# EAGLE library part 2013289-1 (library SamacSys_Parts)
Double Data Rate (DDR) 3, 5.2 mm [.205 in] Stack Height, Right Angle Module Orientation, 204 Position, .6 mm [.024 in] Centerline, SO DIMM Sockets Source: Datasheet <https://www.te.com/commerce/DocumentDelivery/DDEController?Action=srchrtrv&DocNm=2013289&DocType=Customer Drawing&DocLang=English&DocFormat=pdf&PartCntxt=2013289-1>
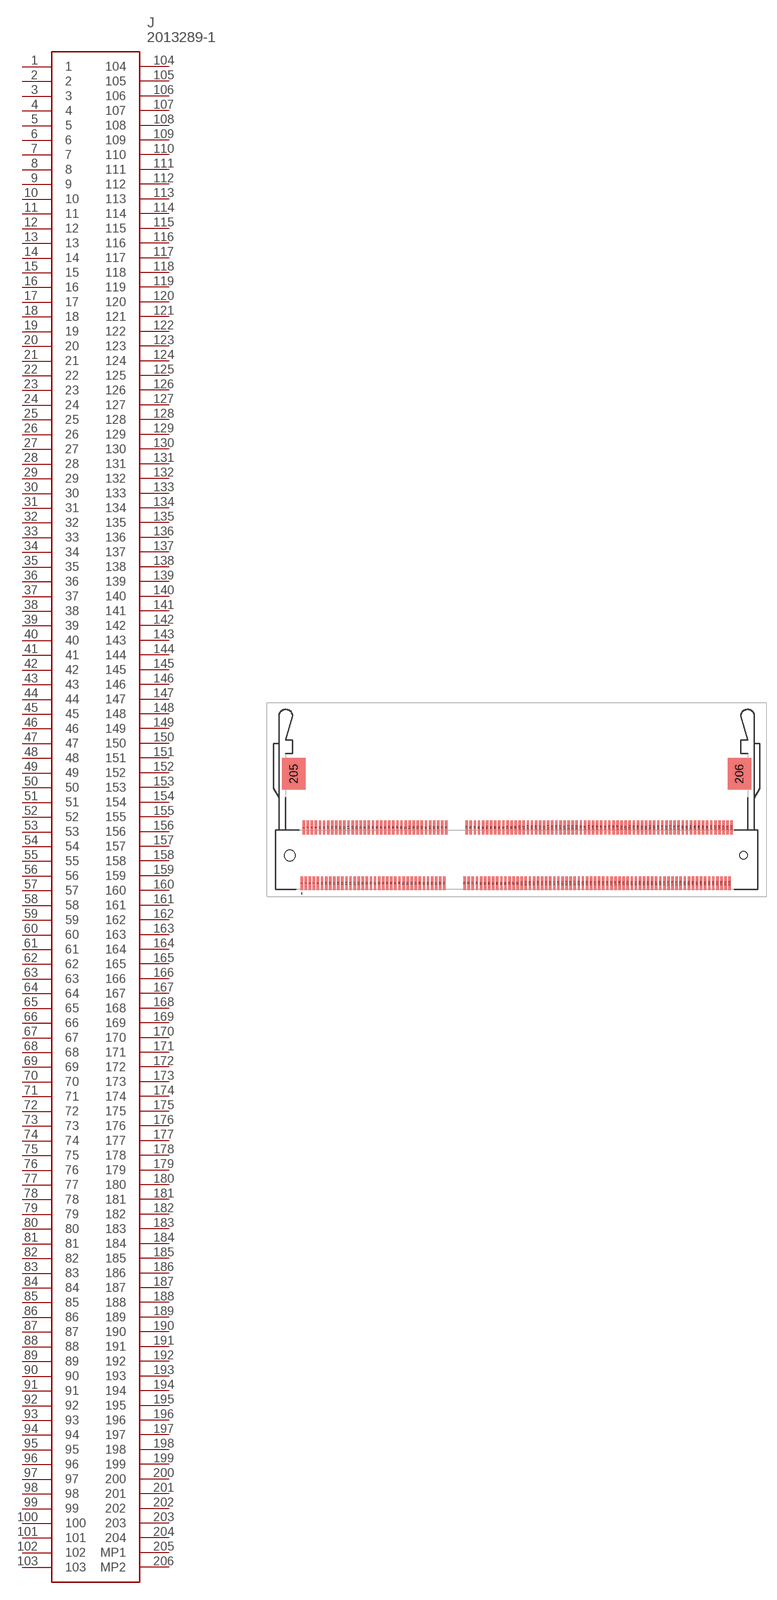
[diagram p38: symbol with the pads of 20132891; footprint 20132891]

Designator prefix J

## 2013289-1 (DESCRIPTION: Double Data Rate (DDR) 3, 5.2 mm [.205 in] Stack Height, Right Angle Module Orientation, 204 Position, .6 mm [.024 in] Centerline, SO DIMM Sockets; HEIGHT: 6.25mm; MANUFACTURER_NAME: TE Connectivity; MANUFACTURER_PART_NUMBER: 2013289-1; MOUSER_PART_NUMBER: 571-2013289-1; MOUSER_PRICE-STOCK: https://www.mouser.co.uk/ProductDetail/TE-Connectivity/2013289-1?qs=7Sb4WzetO8%252BsW7IoJbo%2FKQ%3D%3D)  [20132891]
1  1
2  2
3  3
4  4
5  5
6  6
7  7
8  8
9  9
10  10
11  11
12  12
13  13
14  14
15  15
16  16
17  17
18  18
19  19
20  20
21  21
22  22
23  23
24  24
25  25
26  26
27  27
28  28
29  29
30  30
31  31
32  32
33  33
34  34
35  35
36  36
37  37
38  38
39  39
40  40
41  41
42  42
43  43
44  44
45  45
46  46
47  47
48  48
49  49
50  50
51  51
52  52
53  53
54  54
55  55
56  56
57  57
58  58
59  59
60  60
61  61
62  62
63  63
64  64
65  65
66  66
67  67
68  68
69  69
70  70
71  71
72  72
73  73
74  74
75  75
76  76
77  77
78  78
79  79
80  80
81  81
82  82
83  83
84  84
85  85
86  86
87  87
88  88
89  89
90  90
91  91
92  92
93  93
94  94
95  95
96  96
97  97
98  98
99  99
100  100
101  101
102  102
103  103
104  104
105  105
106  106
107  107
108  108
109  109
110  110
111  111
112  112
113  113
114  114
115  115
116  116
117  117
118  118
119  119
120  120
121  121
122  122
123  123
124  124
125  125
126  126
127  127
128  128
129  129
130  130
131  131
132  132
133  133
134  134
135  135
136  136
137  137
138  138
139  139
140  140
141  141
142  142
143  143
144  144
145  145
146  146
147  147
148  148
149  149
150  150
151  151
152  152
153  153
154  154
155  155
156  156
157  157
158  158
159  159
160  160
161  161
162  162
163  163
164  164
165  165
166  166
167  167
168  168
169  169
170  170
171  171
172  172
173  173
174  174
175  175
176  176
177  177
178  178
179  179
180  180
181  181
182  182
183  183
184  184
185  185
186  186
187  187
188  188
189  189
190  190
191  191
192  192
193  193
194  194
195  195
196  196
197  197
198  198
199  199
200  200
201  201
202  202
203  203
204  204
205  MP1
206  MP2

## Footprint 20132891 (pad centres in mm)
2013289-1-1
smd 0.35 x 2: 1 -31.65,-12.35; 2 -31.35,-4.15; 3 -31.05,-12.35; 4 -30.75,-4.15; 5 -30.45,-12.35; 6 -30.15,-4.15; 7 -29.85,-12.35; 8 -29.55,-4.15; 9 -29.25,-12.35; 10 -28.95,-4.15; 11 -28.65,-12.35; 12 -28.35,-4.15; 13 -28.05,-12.35; 14 -27.75,-4.15; 15 -27.45,-12.35; 16 -27.15,-4.15; 17 -26.85,-12.35; 18 -26.55,-4.15; 19 -26.25,-12.35; 20 -25.95,-4.15; 21 -25.65,-12.35; 22 -25.35,-4.15; 23 -25.05,-12.35; 24 -24.75,-4.15; 25 -24.45,-12.35; 26 -24.15,-4.15; 27 -23.85,-12.35; 28 -23.55,-4.15; 29 -23.25,-12.35; 30 -22.95,-4.15; 31 -22.65,-12.35; 32 -22.35,-4.15; 33 -22.05,-12.35; 34 -21.75,-4.15; 35 -21.45,-12.35; 36 -21.15,-4.15; 37 -20.85,-12.35; 38 -20.55,-4.15; 39 -20.25,-12.35; 40 -19.95,-4.15; 41 -19.65,-12.35; 42 -19.35,-4.15; 43 -19.05,-12.35; 44 -18.75,-4.15; 45 -18.45,-12.35; 46 -18.15,-4.15; 47 -17.85,-12.35; 48 -17.55,-4.15; 49 -17.25,-12.35; 50 -16.95,-4.15; 51 -16.65,-12.35; 52 -16.35,-4.15; 53 -16.05,-12.35; 54 -15.75,-4.15; 55 -15.45,-12.35; 56 -15.15,-4.15; 57 -14.85,-12.35; 58 -14.55,-4.15; 59 -14.25,-12.35; 60 -13.95,-4.15; 61 -13.65,-12.35; 62 -13.35,-4.15; 63 -13.05,-12.35; 64 -12.75,-4.15; 65 -12.45,-12.35; 66 -12.15,-4.15; 67 -11.85,-12.35; 68 -11.55,-4.15; 69 -11.25,-12.35; 70 -10.95,-4.15; 71 -10.65,-12.35; 72 -10.35,-4.15; 73 -7.65,-12.35; 74 -7.35,-4.15; 75 -7.05,-12.35; 76 -6.75,-4.15; 77 -6.45,-12.35; 78 -6.15,-4.15; 79 -5.85,-12.35; 80 -5.55,-4.15; 81 -5.25,-12.35; 82 -4.95,-4.15; 83 -4.65,-12.35; 84 -4.35,-4.15; 85 -4.05,-12.35; 86 -3.75,-4.15; 87 -3.45,-12.35; 88 -3.15,-4.15; 89 -2.85,-12.35; 90 -2.55,-4.15; 91 -2.25,-12.35; 92 -1.95,-4.15; 93 -1.65,-12.35; 94 -1.35,-4.15; 95 -1.05,-12.35; 96 -0.75,-4.15; 97 -0.45,-12.35; 98 -0.15,-4.15; 99 0.15,-12.35; 100 0.45,-4.15; 101 0.75,-12.35; 102 1.05,-4.15; 103 1.35,-12.35; 104 1.65,-4.15; 105 1.95,-12.35; 106 2.25,-4.15; 107 2.55,-12.35; 108 2.85,-4.15; 109 3.15,-12.35; 110 3.45,-4.15; 111 3.75,-12.35; 112 4.05,-4.15; 113 4.35,-12.35; 114 4.65,-4.15; 115 4.95,-12.35; 116 5.25,-4.15; 117 5.55,-12.35; 118 5.85,-4.15; 119 6.15,-12.35; 120 6.45,-4.15; 121 6.75,-12.35; 122 7.05,-4.15; 123 7.35,-12.35; 124 7.65,-4.15; 125 7.95,-12.35; 126 8.25,-4.15; 127 8.55,-12.35; 128 8.85,-4.15; 129 9.15,-12.35; 130 9.45,-4.15; 131 9.75,-12.35; 132 10.05,-4.15; 133 10.35,-12.35; 134 10.65,-4.15; 135 10.95,-12.35; 136 11.25,-4.15; 137 11.55,-12.35; 138 11.85,-4.15; 139 12.15,-12.35; 140 12.45,-4.15; 141 12.75,-12.35; 142 13.05,-4.15; 143 13.35,-12.35; 144 13.65,-4.15; 145 13.95,-12.35; 146 14.25,-4.15; 147 14.55,-12.35; 148 14.85,-4.15; 149 15.15,-12.35; 150 15.45,-4.15; 151 15.75,-12.35; 152 16.05,-4.15; 153 16.35,-12.35; 154 16.65,-4.15; 155 16.95,-12.35; 156 17.25,-4.15; 157 17.55,-12.35; 158 17.85,-4.15; 159 18.15,-12.35; 160 18.45,-4.15; 161 18.75,-12.35; 162 19.05,-4.15; 163 19.35,-12.35; 164 19.65,-4.15; 165 19.95,-12.35; 166 20.25,-4.15; 167 20.55,-12.35; 168 20.85,-4.15; 169 21.15,-12.35; 170 21.45,-4.15; 171 21.75,-12.35; 172 22.05,-4.15; 173 22.35,-12.35; 174 22.65,-4.15; 175 22.95,-12.35; 176 23.25,-4.15; 177 23.55,-12.35; 178 23.85,-4.15; 179 24.15,-12.35; 180 24.45,-4.15; 181 24.75,-12.35; 182 25.05,-4.15; 183 25.35,-12.35; 184 25.65,-4.15; 185 25.95,-12.35; 186 26.25,-4.15; 187 26.55,-12.35; 188 26.85,-4.15; 189 27.15,-12.35; 190 27.45,-4.15; 191 27.75,-12.35; 192 28.05,-4.15; 193 28.35,-12.35; 194 28.65,-4.15; 195 28.95,-12.35; 196 29.25,-4.15; 197 29.55,-12.35; 198 29.85,-4.15; 199 30.15,-12.35; 200 30.45,-4.15; 201 30.75,-12.35; 202 31.05,-4.15; 203 31.35,-12.35; 204 31.65,-4.15
smd 3.5 x 4.6: 205 -32.8,3.75; 206 32.8,3.75
hole 1.6 at -33.4,-8.25
hole 1.1 at 33.4,-8.25